# Altium schematic symbol library 4691.SchLib: 1 symbol
Pins are listed as number, name and electrical type; pins without a type are passive.

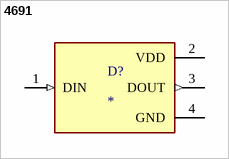
[diagram p0: symbol 4691]

## 4691
designator D?
MF: {'manufacturer': u'Adafruit'}; MP: 4691; Package: None; Price: None; Value: *; Availability: Unavailable
footprint LED_4691
pins: 1 DIN (in), 2 VDD (power), 3 DOUT (out), 4 GND (power)